# Altium footprint library PCB_Oxi_VT0.1-991023.PcbLib: 22 footprints (part 2 of 2)
Each footprint in its own frame and in the unit in brackets; x right, y up, seen from the top. Pads: shape width x height; smd on the part's side, far side on the other; paste and mask are expansions set on the pad; w line width, h text height; cw(c..) or ccw(c..) is an arc to the next point about the centre after c.
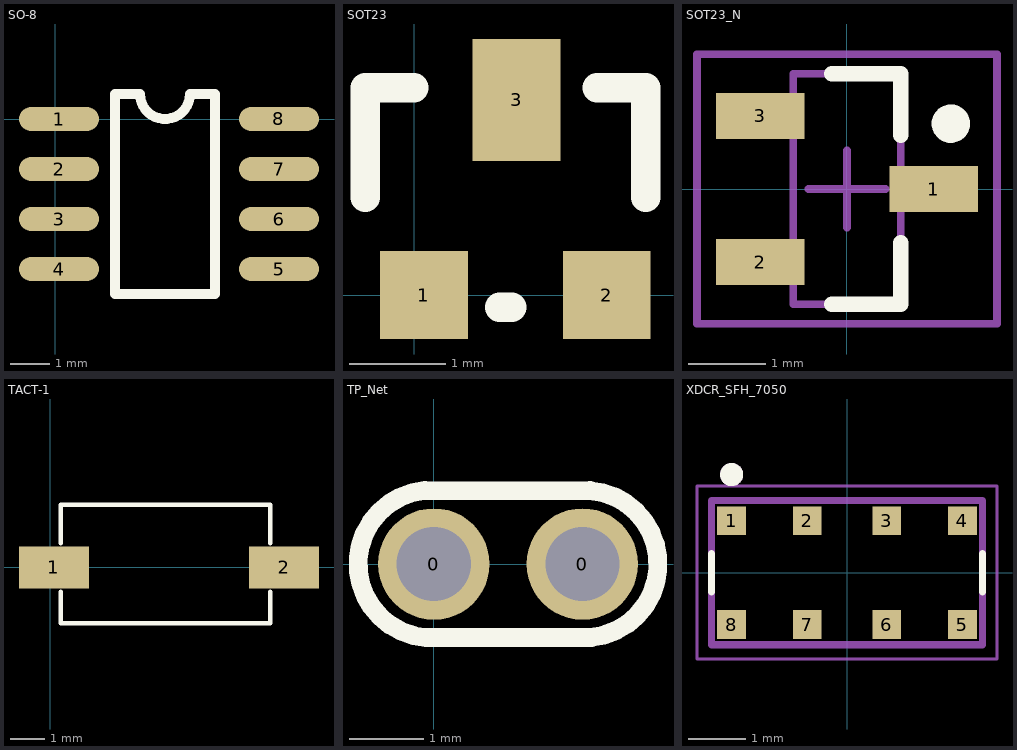
[diagram p1: the footprints below, top view; thin cyan lines are the x and y axes]

## SO-8 [mil]
pads (8):
  oval 80x24 smd: 1(4,0) 2(4,-50) 3(4,-100) 4(4,-150) 5(224,-150) 6(224,-100) 7(224,-50) 8(224,0)
Top Overlay:
  lines w10: 60,-175 60,25 85,25 ccw(c110,25) 135,25 160,25 160,-175 60,-175
3D body "User Library-SOIC8_JEDEC_MS-012AA.STEP": height 68.7, standoff -0.31, extent -5.03,-172.85 239.03,24

## SOT23 [mil]
pads (3):
  rect 36x36 smd: 1(4,0) 2(79,0)
  rect 36x50 smd: 3(42,80)
Top Overlay:
  lines w12: -20,40 -20,85 0,85 ; 35,-5 40,-5 ; 75,85 95,85 95,40

## SOT23_N [mm] "SOT23, 3-Leads, Body 2.9x1.3mm, Pitch 0.95mm, Lead Span 2.3mm - Reverse Pinning, IPC Medium Density"
height 1.1
pads (3):
  rect 1.15x0.6 smd: 1(1.125,0) 2(-1.125,-0.95) 3(-1.125,0.95)
Top Overlay:
  circle w0.25: c1.35,0.85 r0.125
  lines w0.2: -0.2,-1.5 0.7,-1.5 0.7,-0.7 ; -0.2,1.5 0.7,1.5 0.7,0.7
Mechanical 13:
  lines w0.1: -0.7,-1.5 0.7,-1.5 0.7,1.5 -0.7,1.5 -0.7,-1.5
Mechanical 15:
  lines w0.1: -0.5,0 0.5,0 ; 0,-0.5 0,0.5 ; -1.95,-1.75 1.95,-1.75 1.95,1.75 -1.95,1.75 -1.95,-1.75
3D body: height 1.1, standoff 0, extent -0.7,-1.5 0.7,1.5

## TACT-1 [mm]
pads (2):
  rect 2x1.2 smd: 1(0.102,0) 2(6.702,0)
Top Overlay:
  lines w0.127: 0.3,-0.7 0.3,-1.6 6.3,-1.6 6.3,-0.7 ; 0.3,0.7 0.3,1.8 6.3,1.8 6.3,0.7
3D body "User Library-Tact switch 1181_3.STEP": height 2.4, standoff -0.1, extent -0.673,-1.775 7.327,1.825

## TP_Net [mm]
pads (2):
  round 1.5 hole 1: 0(0,0) 0(2,0)
Top Overlay:
  lines w0.254: -0.121,0.991 ccw(c-0.025,0) -0.104,-0.992 ; -0.118,0.987 2.101,0.987 ; -0.101,-0.988 2.118,-0.988 ; 2.103,0.989 cw(c2.025,0) 2.121,-0.988

## XDCR_SFH_7050 [mm]
pads (8):
  rect 0.5x0.5 smd paste-1 mask+0: 1(-2,0.9) 2(-0.69,0.9) 3(0.69,0.9) 4(2,0.9) 5(2,-0.9) 6(0.69,-0.9) 7(-0.69,-0.9) 8(-2,-0.9)
Top Overlay:
  circle w0.2: c-2,1.7 r0.1
  lines w0.127: -2.35,-0.33 -2.35,0.33 ; 2.35,-0.33 2.35,0.33
Top Paste:
  region: 2.2,0.7 1.8,0.7 1.8,1.101 2.2,1.101
  region: 2.2,-1.101 1.8,-1.101 1.8,-0.7 2.2,-0.7
  region: -1.8,-1.101 -2.2,-1.101 -2.2,-0.7 -1.8,-0.7
  region: -1.8,0.7 -2.2,0.7 -2.2,1.101 -1.8,1.101
  region: 0.89,-1.101 0.49,-1.101 0.49,-0.7 0.89,-0.7
  region: -0.49,-1.101 -0.89,-1.101 -0.89,-0.7 -0.49,-0.7
  region: 0.89,0.7 0.49,0.7 0.49,1.101 0.89,1.101
  region: -0.49,0.7 -0.89,0.7 -0.89,1.101 -0.49,1.101
Top Solder:
  region: 2.5,-1.4 -2.5,-1.4 -2.5,1.4 2.5,1.4
Mechanical 13:
  circle w0.2: c-2,1.7 r0.1
  lines w0.127: -2.35,-1.25 2.35,-1.25 2.35,1.25 -2.35,1.25 -2.35,-1.25
Mechanical 15:
  lines w0.05: -2.6,-1.5 2.6,-1.5 2.6,1.5 -2.6,1.5 -2.6,-1.5
3D body "SFH7050_OSR.step": height 0.99, standoff 0, extent -2.4,-1.156 2.4,1.156